# Altium footprint library IRsensor_Relay_Controller_2.PcbLib: 8 footprints
Each footprint in its own frame and in the unit in brackets; x right, y up, seen from the top. Pads: shape width x height; smd on the part's side, far side on the other; paste and mask are expansions set on the pad; w line width, h text height; cw(c..) or ccw(c..) is an arc to the next point about the centre after c.
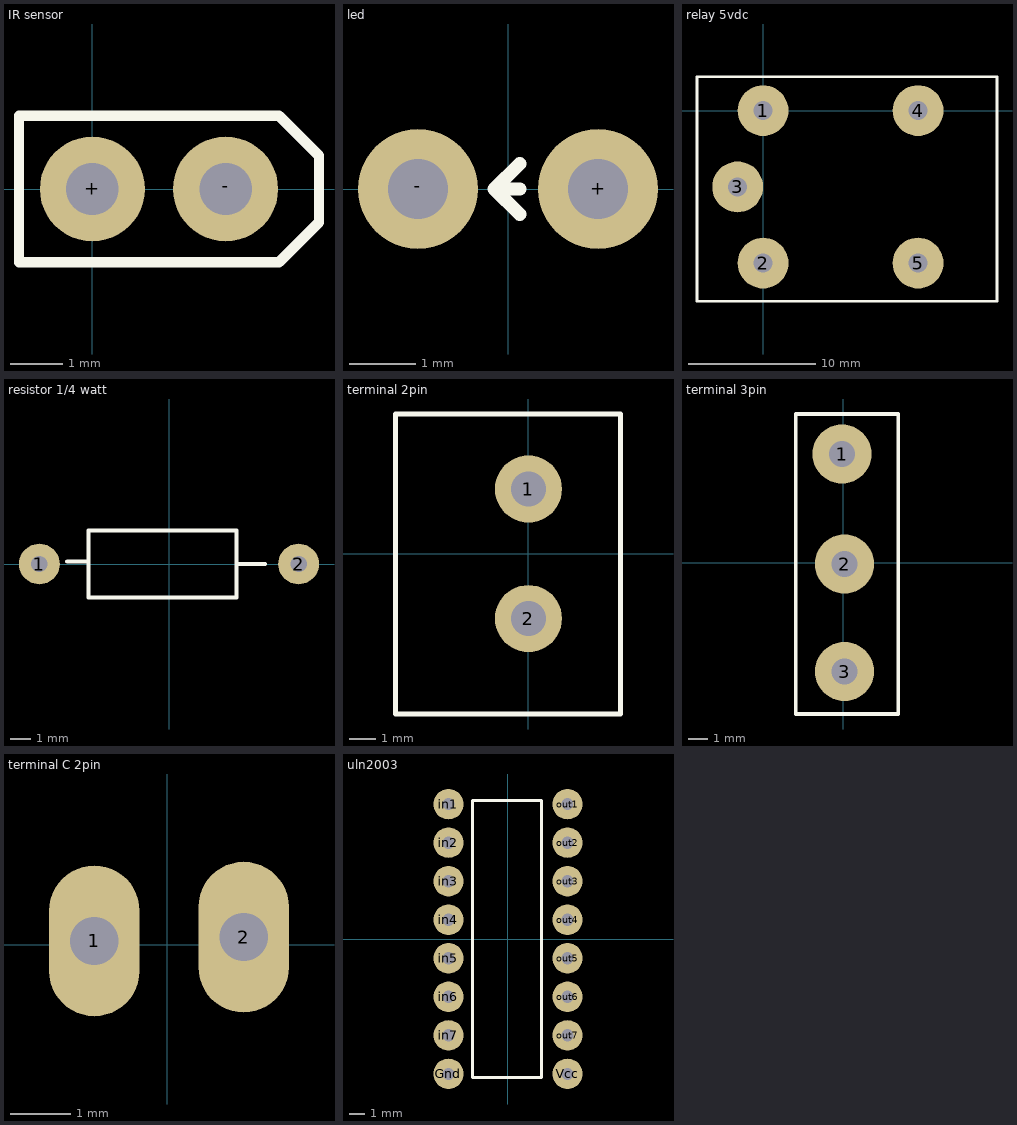
[diagram p0: the footprints below, top view; thin cyan lines are the x and y axes]

## IR sensor [mm]
pads (2):
  round 2 hole 1: +(0,0) -(2.54,0)
Top Overlay:
  lines w0.2: -1.397,-1.397 3.556,-1.397 4.318,-0.635 4.318,0.635 3.556,1.397 -1.397,1.397 -1.397,-1.397
3D body "everlight-IR204-A.STEP": height 12.58, standoff 0.01, extent -0.189,-2.022 3.237,1.778

## led [mm]
pads (2):
  round 1.8 hole 0.9: +(1.35,0) -(-1.35,0)
Top Overlay:
  lines w0.2: 0.174,-0.381 -0.207,0 ; 0.174,0 -0.207,0 ; 0.174,0.381 -0.207,0
3D body "CircuitWorks-REDLED.STEP": height 8.57, standoff 0.01, extent -1.994,-1.968 1.994,1.524

## relay 5vdc [mm]
pads (5):
  round 4 hole 1.5: 1(0,0) 2(0,-12) 3(-2.001,-6) 4(12.2,0) 5(12.2,-12)
Top Overlay:
  lines w0.2: -5.207,-15 18.415,-15 18.415,2.667 -5.207,2.667 -5.207,-15
3D body "g5le-1_5dc.stp": height 19.01, standoff -3.49, extent -4.519,-14.346 17.981,2.154

## resistor 1/4 watt [mm]
pads (2):
  round 2 hole 0.8: 1(-6.35,0) 2(6.35,0)
Top Overlay:
  lines w0.2: -4.985,0.127 -3.937,0.127 ; 3.429,0 4.699,0 ; -3.937,0.127 -3.937,1.651 3.302,1.651 3.302,-1.651 -3.937,-1.651 -3.937,0.127
3D body "User Library-Res50-Axial 0_5W-330R.STEP": height 9.39, standoff 0.01, extent -6.725,-1.875 6.725,1.875

## terminal 2pin [mm]
pads (2):
  round 2.5 hole 1.3: 1(0,2.413) 2(0,-2.413)
Top Overlay:
  lines w0.2: -4.953,-5.969 3.429,-5.969 3.429,5.207 -4.953,5.207 -4.953,-5.969
3D body "User Library-Terminal-Screw-3A-2way.STEP": height 13.01, standoff 0.01, extent -4.562,-5.6 3.038,5

## terminal 3pin [mm]
pads (3):
  round 3 hole 1.3: 1(-0.064,5.524) 2(0.064,-0.064) 3(0.064,-5.524)
Top Overlay:
  lines w0.2: -2.413,-7.683 2.794,-7.683 2.794,7.556 -2.413,7.556 -2.413,-7.683
3D body "User Library-TER-KF128-3P.STEP": height 11.99, standoff -7.31, extent -4.277,-8.047 6.223,7.793

## terminal C 2pin [mm]
pads (2):
  oval 1.5x2.5 hole 0.8: 1(-1.206,0.064) 2(1.27,0.127)
3D body "User Library-XH2_54_2PIN.STEP": height 11.01, standoff 0.01, extent -4,-2.952 4,3.048

## uln2003 [mm]
pads (16):
  round 2 hole 0.8: Gnd(-3.924,-8.89) in1(-3.924,8.89) in2(-3.924,6.35) in3(-3.924,3.81) in4(-3.924,1.27) in5(-3.924,-1.27) in6(-3.924,-3.81) in7(-3.924,-6.35) out1(3.925,8.89) out2(3.925,6.35) out3(3.925,3.81) out4(3.925,1.27) out5(3.925,-1.27) out6(3.925,-3.81) out7(3.925,-6.35) Vcc(3.925,-8.89)
Top Overlay:
  lines w0.2: -2.347,-9.144 2.222,-9.144 2.222,9.144 -2.347,9.144 -2.347,-9.144
3D body "uln2003a.stp": height 3.31, standoff -3.79, extent -3.937,-9.59 3.933,9.59